# Altium footprint library Header 8.PcbLib: 1 footprints
Each footprint in its own frame and in the unit in brackets; x right, y up, seen from the top. Pads: shape width x height; smd on the part's side, far side on the other; paste and mask are expansions set on the pad; w line width, h text height; cw(c..) or ccw(c..) is an arc to the next point about the centre after c.
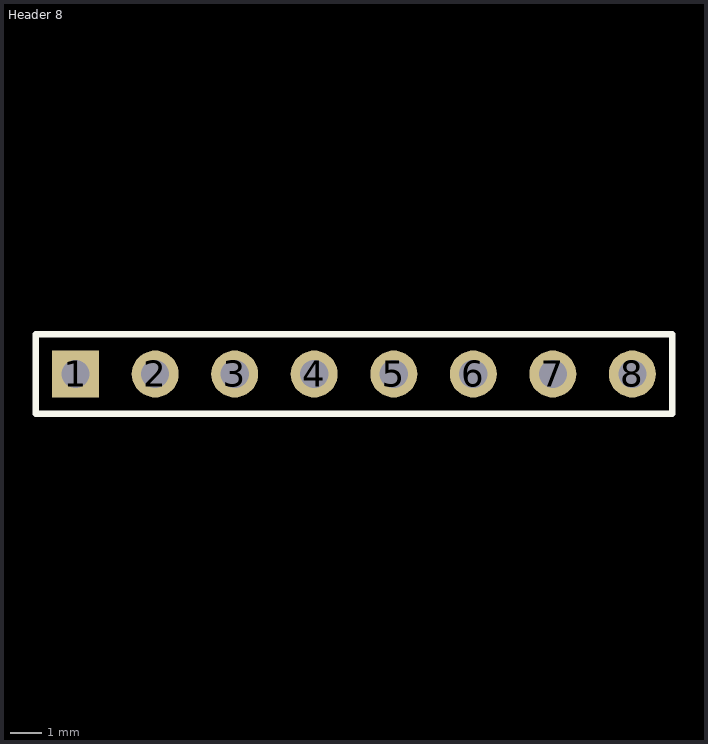
[diagram p0: the footprint, top view; thin cyan lines are the x and y axes]

## Header 8 [mm]
pads (8):
  rect 1.5x1.5 hole 0.9: 1(16.891,20.066)
  round 1.5 hole 0.9: 2(19.431,20.066) 3(21.971,20.066) 4(24.511,20.066) 5(27.051,20.066) 6(29.591,20.066) 7(32.131,20.066) 8(34.671,20.066)
Top Overlay:
  lines w0.2: 15.621,18.796 15.621,21.336 35.941,21.336 35.941,18.796 15.621,18.796
3D body "1x8 TH Vert 100mil.step": height 8.38, standoff -3.3, extent 15.621,18.796 35.941,21.336